# Altium footprint library Chip_kz85.PcbLib: 314 footprints (part 11 of 20)
Each footprint in its own frame and in the unit in brackets; x right, y up, seen from the top. Pads: shape width x height; smd on the part's side, far side on the other; paste and mask are expansions set on the pad; w line width, h text height; cw(c..) or ccw(c..) is an arc to the next point about the centre after c.
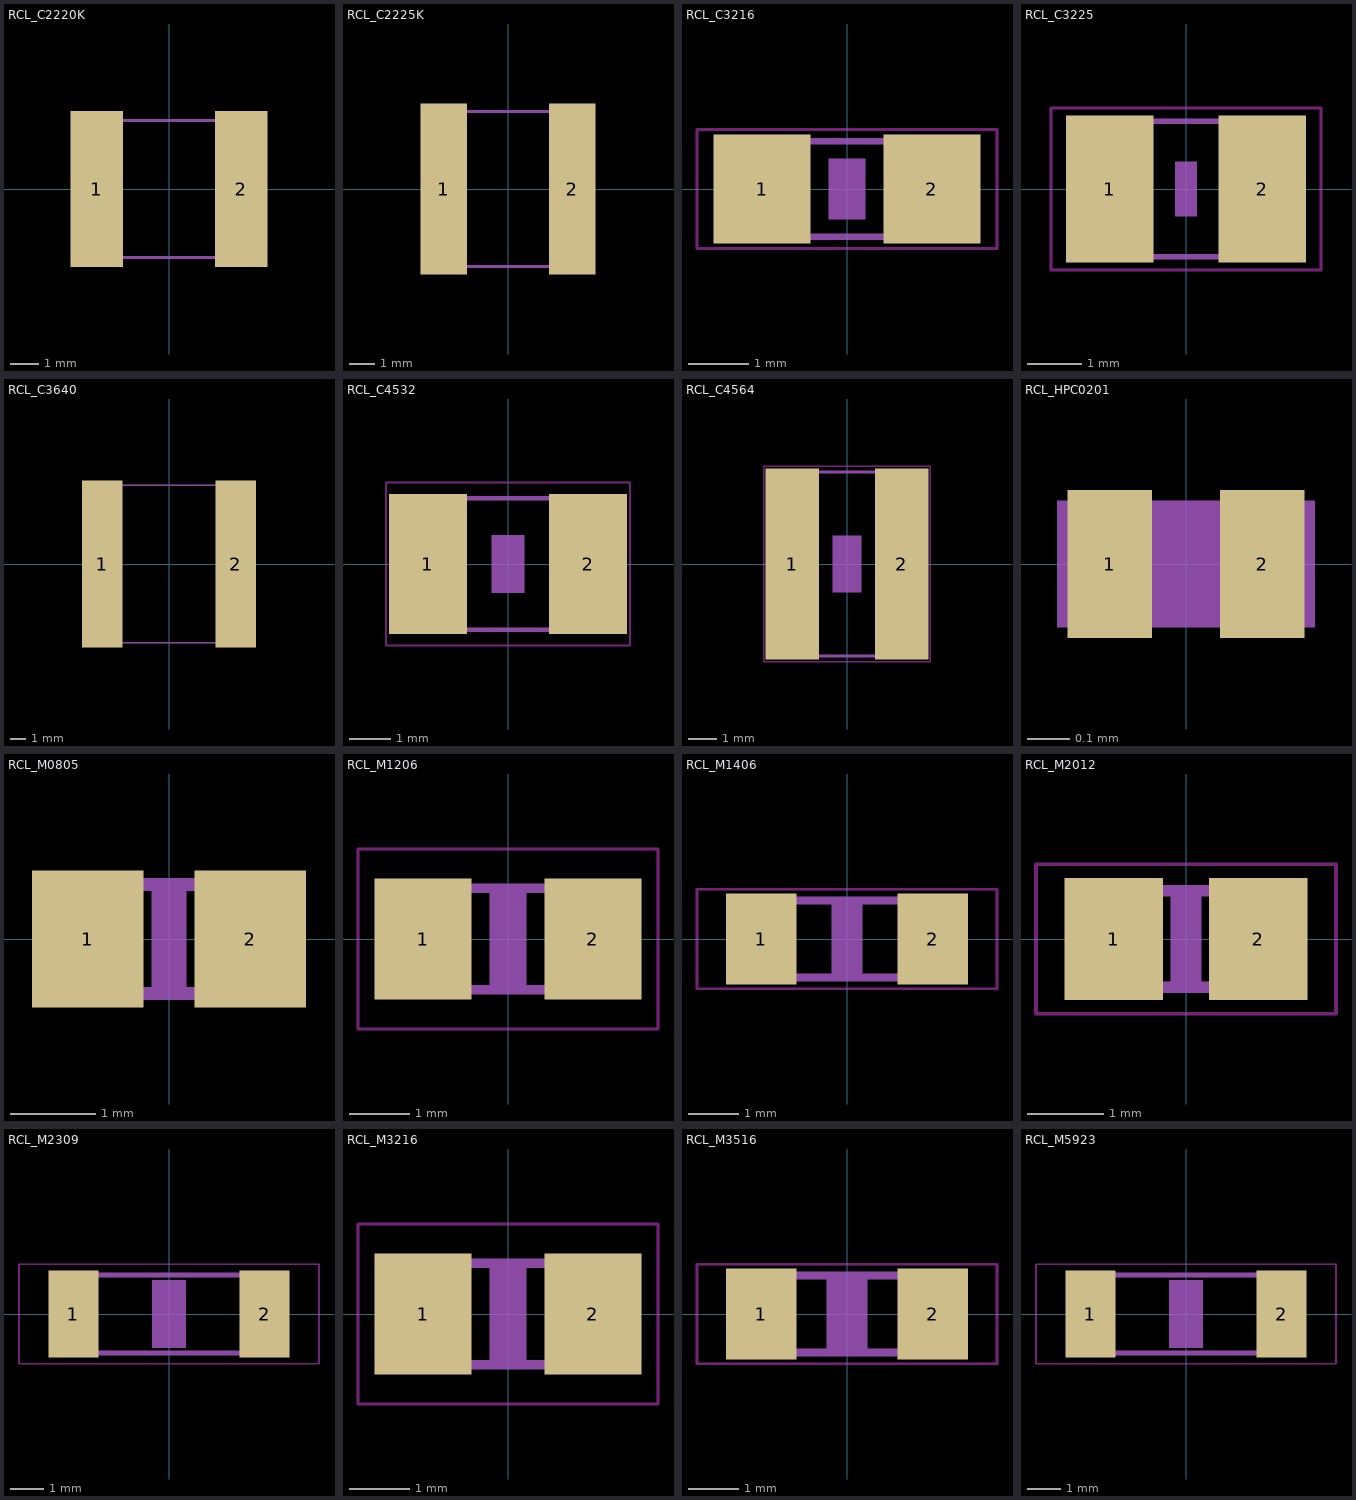
[diagram p10: the footprints below, top view; thin cyan lines are the x and y axes]

## RCL_C2220K [mil]
pads (2):
  rect 72.83x216.54 smd: 1(-100.39,0) 2(100.39,0)
Mechanical 3:
  region: -110.24,-98.43 -110.24,98.43 -86.61,98.43 -86.61,-98.43
  region: 86.61,-98.43 86.61,98.43 110.24,98.43 110.24,-98.43
  lines w4: -107.28,-95.47 107.28,-95.47 ; -107.28,95.47 107.28,95.47

## RCL_C2225K [mil]
pads (2):
  rect 72.83x267.72 smd: 1(-100.39,0) 2(100.39,0)
Mechanical 3:
  region: -110.24,-124.02 -110.24,124.02 -86.61,124.02 -86.61,-124.02
  region: 86.61,-124.02 86.61,124.02 110.24,124.02 110.24,-124.02
  lines w4: -107.28,-121.06 107.28,-121.06 ; -107.28,121.06 107.28,121.06

## RCL_C3216 [mil]
pads (2):
  rect 62.99x70.87 smd: 1(-55.12,0) 2(55.12,0)
Top Layer keep-out:
  lines w2: -97.36,-38.7 97.36,-38.7 97.36,38.7 -97.36,38.7 -97.36,-38.7
Mechanical 3:
  region: -67,-33.5 -67,33.43 -37.47,33.43 -37.47,-33.5
  region: 37.47,-33.43 37.47,33.5 67,33.5 67,-33.43
  lines w4: -37.99,-30.98 37.99,-30.98 ; -37.99,30.98 37.99,30.98
Mechanical 11:
  region: -11.81,-19.69 -11.81,19.69 11.81,19.69 11.81,-19.69

## RCL_C3225 [mil]
pads (2):
  rect 62.99x106.3 smd: 1(-55.12,0) 2(55.12,0)
Top Layer keep-out:
  lines w2: -97.36,-58.39 97.36,-58.39 97.36,58.39 -97.36,58.39 -97.36,-58.39
Mechanical 3:
  region: -67,-51 -67,51.36 -37.47,51.36 -37.47,-51
  region: 37.47,-51.36 37.47,51 67,51 67,-51.36
  lines w4: -38,-49 38,-49 ; -38,49 38,49
Mechanical 11:
  region: -7.87,-19.69 -7.87,19.69 7.87,19.69 7.87,-19.69

## RCL_C3640 [mm]
pads (2):
  rect 2.6x10.7 smd: 1(-4.267,0) 2(4.267,0)
Mechanical 3:
  region: -4.57,-5.1 -4.57,5.1 -3.05,5.1 -3.05,-5.1
  region: 3.05,-5.1 3.05,5.1 4.569,5.1 4.569,-5.1
  lines w0.102: -3.832,-5.05 3.832,-5.05 ; -3.832,5.05 3.832,5.05

## RCL_C4532 [mil]
pads (2):
  rect 74.8x133.86 smd: 1(-76.77,0) 2(76.77,0)
Top Layer keep-out:
  lines w2: -117.05,-78.07 117.05,-78.07 117.05,78.07 -117.05,78.07 -117.05,-78.07
Mechanical 3:
  region: -94,-65 -94,64.92 -56.6,64.92 -56.6,-65
  region: 57,-65 57,64.92 94.4,64.92 94.4,-65
  lines w4: -58,63 58,63 ; -57,-63 58,-63
Mechanical 11:
  region: -15.75,-27.56 -15.75,27.56 15.75,27.56 15.75,-27.56

## RCL_C4564 [mil]
pads (2):
  rect 74.8x267.72 smd: 1(-76.77,0) 2(76.77,0)
Top Layer keep-out:
  lines w2: -117.05,-137.13 117.05,-137.13 117.05,137.13 -117.05,137.13 -117.05,-137.13
Mechanical 3:
  region: -95,-132 -95,131.78 -57.6,131.78 -57.6,-132
  region: 57,-132 57,131.78 94.4,131.78 94.4,-132
  lines w4: -59,129 58,129 ; -58,-129 59,-129
Mechanical 11:
  region: -19.69,-39.37 -19.69,39.37 19.69,39.37 19.69,-39.37

## RCL_HPC0201 [mm]
pads (2):
  rect 0.2x0.35 smd: 1(-0.18,0) 2(0.18,0)
Mechanical 3:
  region: -0.305,-0.15 -0.305,0.15 0.305,0.15 0.305,-0.15

## RCL_M0805 [mil]
pads (2):
  rect 51.18x62.99 smd: 1(-37.4,0) 2(37.4,0)
Mechanical 3:
  region: -41,-28 -41,28 -27,28 -27,-28
  region: 27,-28 27,28 41,28 41,-28
  lines w6: -28,-25 28,-25 ; -28,25 28,25
Mechanical 11:
  region: -7.87,-23.62 -7.87,23.62 7.87,23.62 7.87,-23.62

## RCL_M1206 [mm]
pads (2):
  rect 1.6x2 smd: 1(-1.4,0) 2(1.4,0)
Top Layer keep-out:
  lines w0.051: -2.473,-1.483 -2.473,1.483 2.473,1.483 2.473,-1.483 -2.473,-1.483
Mechanical 3:
  region: 1.118,-0.914 1.118,0.914 1.702,0.914 1.702,-0.914
  region: -1.702,-0.914 -1.702,0.914 -1.118,0.914 -1.118,-0.914
  lines w0.152: -1.143,-0.838 1.143,-0.838 ; -1.143,0.838 1.143,0.838
Mechanical 11:
  region: -0.3,-0.8 -0.3,0.8 0.3,0.8 0.3,-0.8

## RCL_M1406 [mil]
pads (2):
  rect 55.12x70.87 smd: 1(-66.93,0) 2(66.93,0)
Top Layer keep-out:
  lines w2: -117.05,-38.7 117.05,-38.7 117.05,38.7 -117.05,38.7 -117.05,-38.7
Mechanical 3:
  region: -73,-33 -73,33 -51,33 -51,-33
  region: 51,-33 51,33 73,33 73,-33
  lines w6: -52,-30 52,-30 ; -52,30 52,30
Mechanical 11:
  region: -11.81,-27.56 -11.81,27.56 11.81,27.56 11.81,-27.56

## RCL_M2012 [mil]
pads (2):
  rect 51.18x62.99 smd: 1(-37.4,0) 2(37.4,0)
Top Layer keep-out:
  lines w2: -77.68,-38.7 77.68,-38.7 77.68,38.7 -77.68,38.7 -77.68,-38.7
Mechanical 3:
  region: -41,-28 -41,28 -27,28 -27,-28
  region: 27,-28 27,28 41,28 41,-28
  lines w6: -28,-25 28,-25 ; -28,25 28,25
Mechanical 11:
  region: -7.87,-23.62 -7.87,23.62 7.87,23.62 7.87,-23.62

## RCL_M2309 [mil]
pads (2):
  rect 59.06x102.36 smd: 1(-112.2,0) 2(112.2,0)
Top Layer keep-out:
  lines w2: -176.1,-58.39 176.1,-58.39 176.1,58.39 -176.1,58.39 -176.1,-58.39
Mechanical 3:
  region: -120,-49 -120,49 -94,49 -94,-49
  region: 94,-49 94,49 120,49 120,-49
  lines w6: -96,46 95,46 ; -95,-46 95,-46
Mechanical 11:
  region: -19.69,-39.37 -19.69,39.37 19.69,39.37 19.69,-39.37

## RCL_M3216 [mm]
pads (2):
  rect 1.6x2 smd: 1(-1.4,0) 2(1.4,0)
Top Layer keep-out:
  lines w0.051: -2.473,-1.483 2.473,-1.483 2.473,1.483 -2.473,1.483 -2.473,-1.483
Mechanical 3:
  region: -1.702,-0.914 -1.702,0.914 -1.118,0.914 -1.118,-0.914
  region: 1.118,-0.914 1.118,0.914 1.702,0.914 1.702,-0.914
  lines w0.152: -1.143,-0.838 1.143,-0.838 ; -1.143,0.838 1.143,0.838
Mechanical 11:
  region: -0.3,-0.8 -0.3,0.8 0.3,0.8 0.3,-0.8

## RCL_M3516 [mil]
pads (2):
  rect 55.12x70.87 smd: 1(-66.93,0) 2(66.93,0)
Top Layer keep-out:
  lines w2: -117.05,-38.7 117.05,-38.7 117.05,38.7 -117.05,38.7 -117.05,-38.7
Mechanical 3:
  region: -73,-33 -73,33 -51,33 -51,-33
  region: 51,-33 51,33 73,33 73,-33
  lines w6: -52,-30 52,-30 ; -52,30 52,30
Mechanical 11:
  region: -15.75,-27.56 -15.75,27.56 15.75,27.56 15.75,-27.56

## RCL_M5923 [mil]
pads (2):
  rect 59.06x102.36 smd: 1(-112.2,0) 2(112.2,0)
Top Layer keep-out:
  lines w2: -176.1,-58.39 176.1,-58.39 176.1,58.39 -176.1,58.39 -176.1,-58.39
Mechanical 3:
  region: -120,-49 -120,49 -94,49 -94,-49
  region: 94,-49 94,49 120,49 120,-49
  lines w6: -96,46 95,46 ; -95,-46 95,-46
Mechanical 11:
  region: -19.69,-39.37 -19.69,39.37 19.69,39.37 19.69,-39.37